# EAGLE library part AD7142 (library m-pad)
Analog Devices AD7142 Programmable Capacitance-to-Digital Converter with Environmental Compensation Description: The AD7142 and AD7142-1 are integrated capacitance-to-digital converters (CDCs) with on-chip environmental calibration for use in systems requiring a novel user input method. The AD7142 and AD7142-1 can interface to external capacitance sensors implementing functions such as capacitive buttons, scroll bars, or joypads. The CDC has 14 inputs, channeled through a switch matrix to a 16-bit, 240 kHz sigma-delta capacitance-to-digital converter. The CDC is capable of sensing changes in the capacitance of the external sensors and uses this information to register a sensor activation. The external sensors can be arranged as a series of buttons, as a scroll bar or wheel, or as a combination of sensor types. By programming the registers, the user has full control over the CDC setup. High resolution scroll bar sensors require software to run on the host processor. The AD7142 and AD7142-1 have on-chip calibration logic to account for changes in the ambient environment. The calibration sequence is performed automatically and at continuous intervals, while the sensors are not touched. This ensures that there are no false or nonregistering touches on the external sensors due to a changing environment. The AD7142 has an SPI-compatible serial interface, and the AD7142-1 has an I2C-compatible serial interface. Both versions of AD7142 have an interrupt output, as well as a general-purpose input output (GPIO). The AD7142 and AD7142-1 are available in a 32-lead, 5 mm × 5 mm LFCSP package and operate from a 2.7 V to 3.3 V supply. The operating current consumption is less than 1 mA, falling to 50 uA in low power mode (conversion interval of 400 ms). Features: Programmable capacitance-to-digital converter - 30 Hz update rate (@ maximum sequence length) - Better than one femto Farad resolution - 14 capacitance sensor input channels - No external RC tuning components required - Automatic conversion sequencer On-chip automatic calibration logic - Automatic compensation for environmental changes - Automatic adaptive threshold and sensitivity levels On-chip RAM to store calibration data SPI®- or I2C®- (AD7142-1) compatible serial interface Separate VDRIVE level for serial interface Interrupt output and GPIO 32-lead, 5 mm x 5 mm LFCSP 2.7 V to 3.3 V supply voltage Low operating current - Full power mode: less than1 mA - Low power mode: 50 uA Applications: Personal music and multimedia players Cell phones Digital still cameras Smart hand-held devices Television, A/V and remote controls Gaming consoles Please send any comments to: messi@users.sourceforge.net
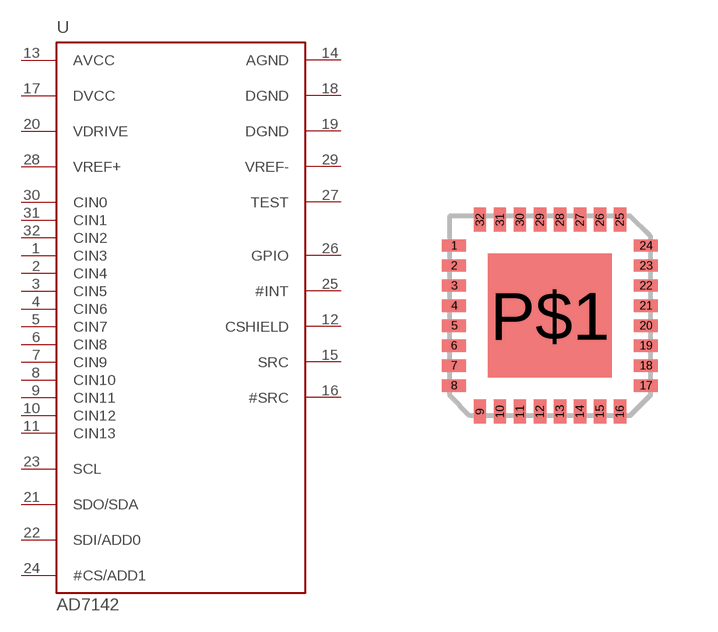
[diagram p151: symbol with the pads of LFCSP-32; footprint LFCSP-32]

Designator prefix U

## AD7142  [LFCSP-32]
1  CIN3  in
2  CIN4  in
3  CIN5  in
4  CIN6  in
5  CIN7  in
6  CIN8  in
7  CIN9  in
8  CIN10  in
9  CIN11  in
10  CIN12  in
11  CIN13  in
12  CSHIELD  out
13  AVCC  pwr
14  AGND  pwr
15  SRC  out
16  #SRC  out
17  DVCC  pwr
18  DGND  pwr
19  DGND  pwr
20  VDRIVE  pwr
21  SDO/SDA
22  SDI/ADD0  in
23  SCL  in
24  #CS/ADD1  in
25  #INT  out
26  GPIO
27  TEST
28  VREF+
29  VREF-
30  CIN0  in
31  CIN1  in
32  CIN2  in

## Footprint LFCSP-32 (pad centres in mm)
Analog Device's 32-Lead Frame Chip Scale Package [LFCSP_VQ] 5 mm × 5 mm Very Thin Quad (CP-32-3)
smd 0.6 x 0.3: 1 -2.4,1.75; 2 -2.4,1.25; 3 -2.4,0.75; 4 -2.4,0.25; 5 -2.4,-0.25; 6 -2.4,-0.75; 7 -2.4,-1.25; 8 -2.4,-1.75; 17 2.4,-1.75; 18 2.4,-1.25; 19 2.4,-0.75; 20 2.4,-0.25; 21 2.4,0.25; 22 2.4,0.75; 23 2.4,1.25; 24 2.4,1.75
smd 0.3 x 0.6: 9 -1.75,-2.4; 10 -1.25,-2.4; 11 -0.75,-2.4; 12 -0.25,-2.4; 13 0.25,-2.4; 14 0.75,-2.4; 15 1.25,-2.4; 16 1.75,-2.4; 25 1.75,2.4; 26 1.25,2.4; 27 0.75,2.4; 28 0.25,2.4; 29 -0.25,2.4; 30 -0.75,2.4; 31 -1.25,2.4; 32 -1.75,2.4
smd 3.1 x 3.1: P$1 0,0